# EAGLE library part SPI_SCREEN_TFT (library Project2)
Adafruit SPI Screen. Data sheet: https://learn.adafruit.com/adafruit-2-8-and-3-2-color-tft-touchscreen-breakout-v2/downloads
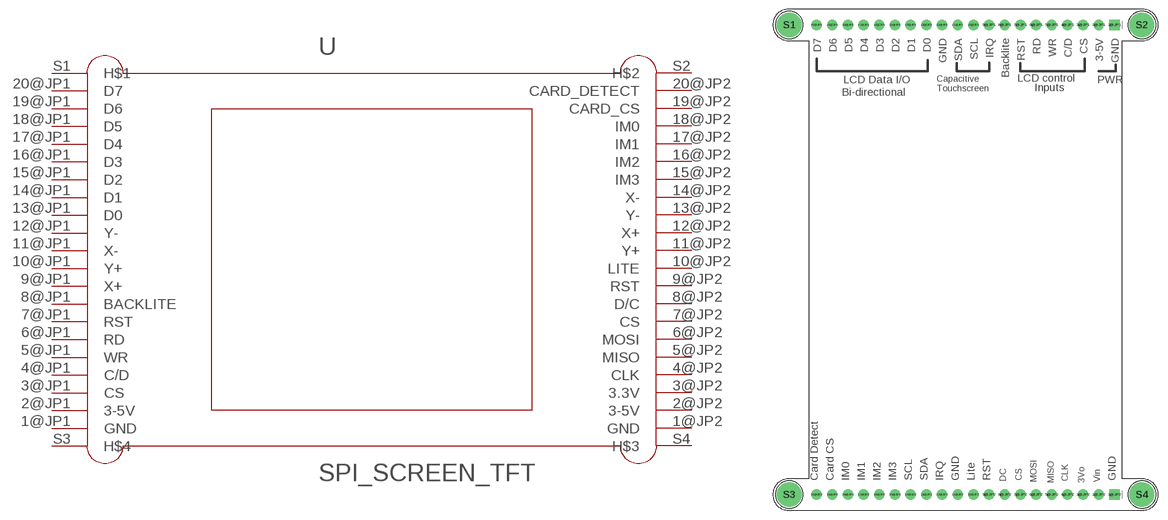
[diagram p4: symbol with the pads of SPI_SREEN_TFT; footprint SPI_SREEN_TFT]

Designator prefix U

## SPI_SCREEN_TFT  [SPI_SREEN_TFT]
1@JP1  GND
1@JP2  GND
2@JP1  3-5V
2@JP2  3-5V
3@JP1  CS
3@JP2  3.3V
4@JP1  C/D
4@JP2  CLK
5@JP1  WR
5@JP2  MISO
6@JP1  RD
6@JP2  MOSI
7@JP1  RST
7@JP2  CS
8@JP1  BACKLITE
8@JP2  D/C
9@JP1  X+
9@JP2  RST
10@JP1  Y+
10@JP2  LITE
11@JP1  X-
11@JP2  Y+
12@JP1  Y-
12@JP2  X+
13@JP1  D0
13@JP2  Y-
14@JP1  D1
14@JP2  X-
15@JP1  D2
15@JP2  IM3
16@JP1  D3
16@JP2  IM2
17@JP1  D4
17@JP2  IM1
18@JP1  D5
18@JP2  IM0
19@JP1  D6
19@JP2  CARD_CS
20@JP1  D7
20@JP2  CARD_DETECT
S1  H$1
S2  H$2
S3  H$4
S4  H$3

## Footprint SPI_SREEN_TFT (pad centres in mm)
Package generated by make-group2pac.ulp from: C:/Users/hs65/Desktop/ENGI301/Adafruit 2.8 inch TFT w Capacitive Touch.brd at: 5/1/2022 8:26 PM
drill 1 pad 1.676 square: 1@JP1 24.13,38.1; 1@JP2 24.13,-38.1
drill 1 pad 1.676: 2@JP1 21.59,38.1; 2@JP2 21.59,-38.1; 3@JP1 19.05,38.1; 3@JP2 19.05,-38.1; 4@JP1 16.51,38.1; 4@JP2 16.51,-38.1; 5@JP1 13.97,38.1; 5@JP2 13.97,-38.1; 6@JP1 11.43,38.1; 6@JP2 11.43,-38.1; 7@JP1 8.89,38.1; 7@JP2 8.89,-38.1; 8@JP1 6.35,38.1; 8@JP2 6.35,-38.1; 9@JP1 3.81,38.1; 9@JP2 3.81,-38.1; 10@JP1 1.27,38.1; 10@JP2 1.27,-38.1; 11@JP1 -1.27,38.1; 11@JP2 -1.27,-38.1; 12@JP1 -3.81,38.1; 12@JP2 -3.81,-38.1; 13@JP1 -6.35,38.1; 13@JP2 -6.35,-38.1; 14@JP1 -8.89,38.1; 14@JP2 -8.89,-38.1; 15@JP1 -11.43,38.1; 15@JP2 -11.43,-38.1; 16@JP1 -13.97,38.1; 16@JP2 -13.97,-38.1; 17@JP1 -16.51,38.1; 17@JP2 -16.51,-38.1; 18@JP1 -19.05,38.1; 18@JP2 -19.05,-38.1; 19@JP1 -21.59,38.1; 19@JP2 -21.59,-38.1; 20@JP1 -24.13,38.1; 20@JP2 -24.13,-38.1
drill 3 pad 3.6: S1 -28.575,38.1; S2 28.575,38.1; S3 -28.575,-38.1; S4 28.575,-38.1